# Altium integrated library PRM3W-E12-S5-S.IntLib: 1 symbol
Pins are listed as number, name and electrical type; pins without a type are passive.

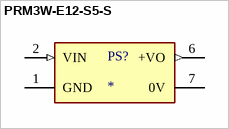
[diagram p0: symbol PRM3W-E12-S5-S]

## PRM3W-E12-S5-S
designator PS?
MP: PRM3W-E12-S5-S; MF: {'manufacturer': u'CUI'}; Package: None; Price: None; Availability: Unavailable; Value: *
footprint CONV_PRM3W-E12-S5-S
pins: 1 GND (power), 2 VIN (in), 6 +VO (out), 7 0V